# Altium footprint library SamacSys.PcbLib: 15 footprints
Each footprint in its own frame and in the unit in brackets; x right, y up, seen from the top. Pads: shape width x height; smd on the part's side, far side on the other; paste and mask are expansions set on the pad; w line width, h text height; cw(c..) or ccw(c..) is an arc to the next point about the centre after c.
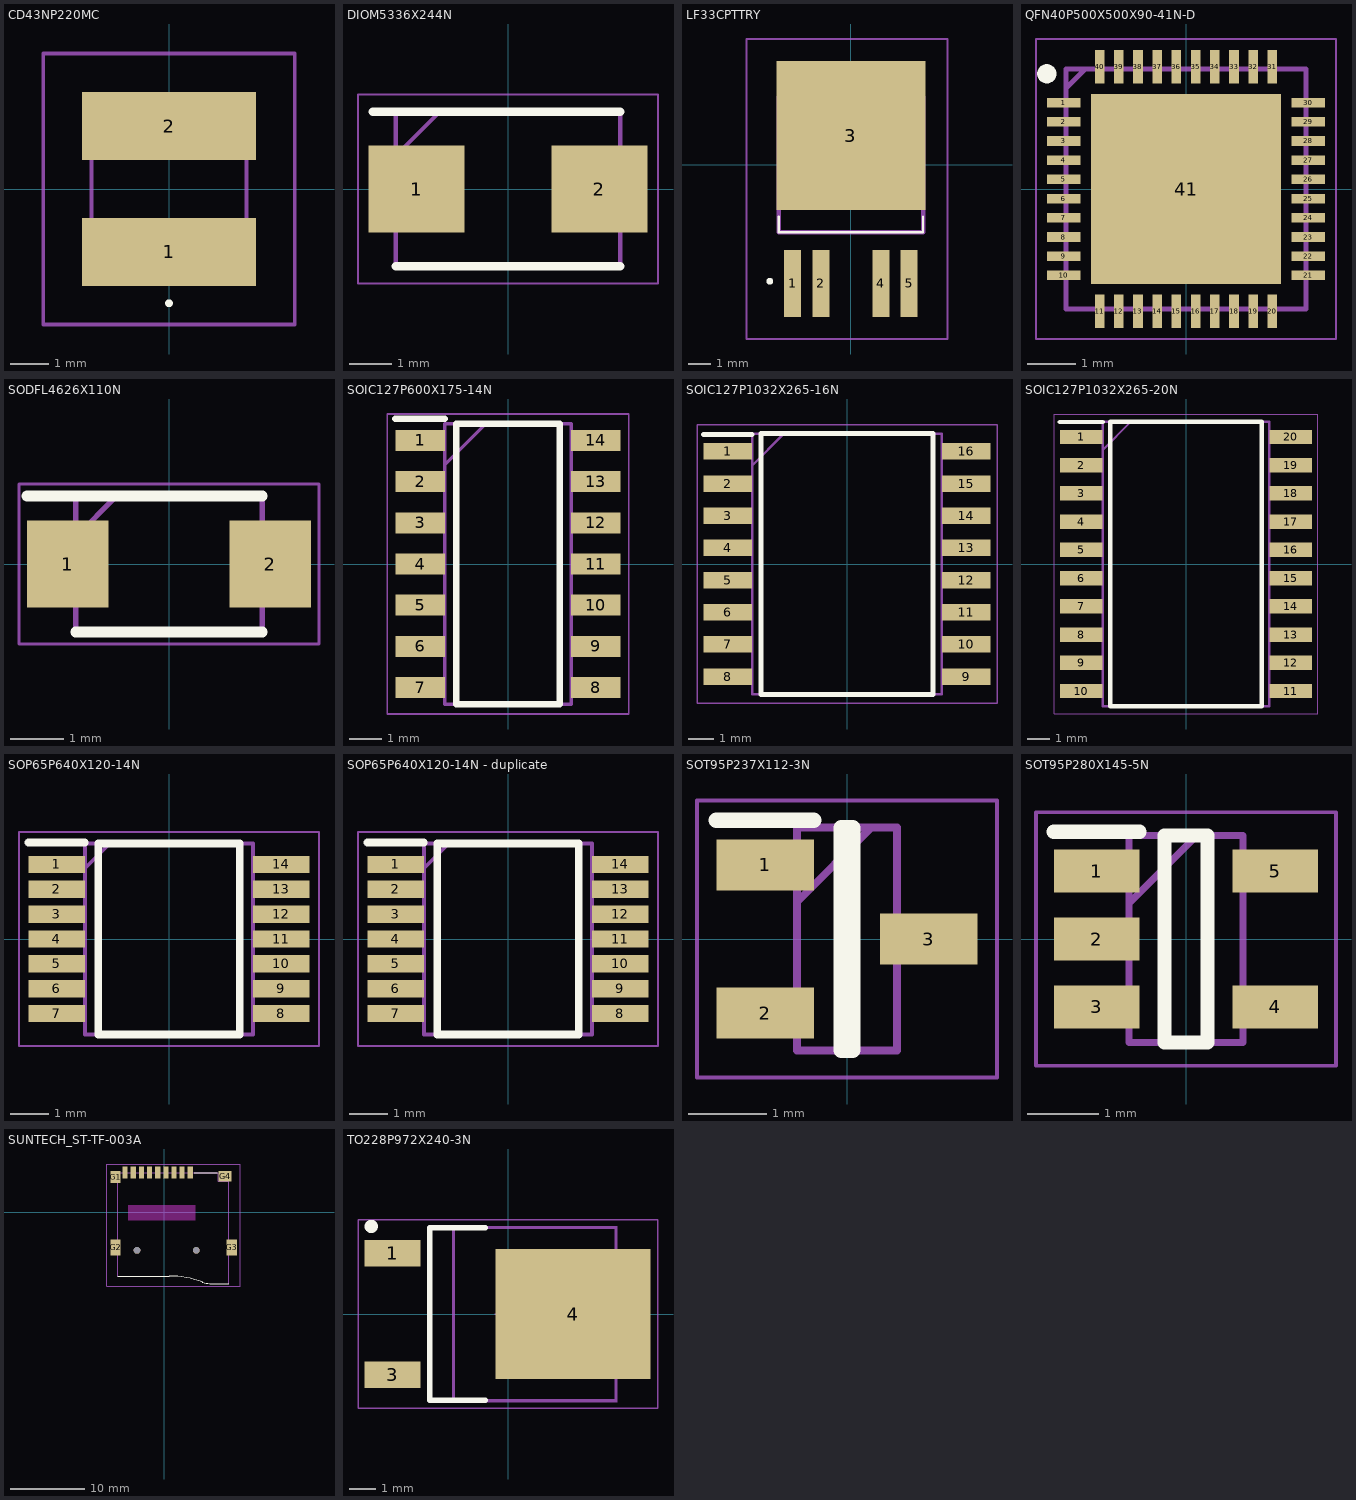
[diagram p0: the footprints below, top view; thin cyan lines are the x and y axes]

## CD43NP220MC [mm]
pads (2):
  rect 4.5x1.75 smd: 1(0,-1.625) 2(0,1.625)
Top Overlay:
  lines w0.1: 0,-3 cw(c0,-2.95) 0,-2.9 cw(c0,-2.95) 0,-3
Mechanical 13:
  lines w0.1: -2,-1.8 -1.6,-2.25 1.6,-2.25 2,-1.8 2,1.8 1.6,2.25 -1,2.25 -1.6,2.25 -2,1.8 -2,-1.8
Mechanical 15:
  lines w0.1: -3.25,-3.5 -3.25,3.5 3.25,3.5 3.25,-3.5 -3.25,-3.5

## DIOM5336X244N [mm]
pads (2):
  rect 2.25x2.05 smd: 1(-2.15,0) 2(2.15,0)
Top Overlay:
  lines w0.2: -3.175,1.81 2.635,1.81 ; -2.635,-1.81 2.635,-1.81
Mechanical 13:
  lines w0.1: -2.635,0.785 -1.61,1.81 ; -2.635,-1.81 2.635,-1.81 2.635,1.81 -2.635,1.81 -2.635,-1.81
Mechanical 15:
  lines w0.05: -3.525,-2.22 3.525,-2.22 3.525,2.22 -3.525,2.22 -3.525,-2.22
3D body "SS510B.stp": height 2.44, standoff 0, extent -2.635,-1.81 2.635,1.81

## LF33CPTTRY [mm]
pads (5):
  rect 0.76x3 smd: 1(-2.62,-5.35) 2(-1.35,-5.35) 4(1.35,-5.35) 5(2.62,-5.35)
  rect 6.7x6.7 smd: 3(0,1.3)
Top Overlay:
  lines w0.1: -3.25,-3.05 -3.25,-2.35 -3.25,-3.05 ; -3.25,-3.05 3.25,-3.05 ; -3.25,-3.05 3.25,-3.05 ; 3.25,-3.05 3.25,-2.35 3.25,-3.05
  lines w0.2: -3.7,-5.25 ccw(c-3.65,-5.25) -3.6,-5.25 ; -3.7,-5.25 cw(c-3.65,-5.25) -3.6,-5.25 ; -3.7,-5.25 ccw(c-3.65,-5.25) -3.6,-5.25
Mechanical 13:
  lines w0.2: -3.25,-3.05 -3.25,3.05 3.25,3.05 3.25,-3.05 -3.25,-3.05
Mechanical 15:
  lines w0.1: -4.7,-7.85 -4.7,5.65 4.35,5.65 4.35,-7.85 -4.7,-7.85

## QFN40P500X500X90-41N-D [mm]
pads (41):
  rect 0.7x0.2 smd: 1(-2.55,1.8) 2(-2.55,1.4) 3(-2.55,1) 4(-2.55,0.6) 5(-2.55,0.2) 6(-2.55,-0.2) 7(-2.55,-0.6) 8(-2.55,-1) 9(-2.55,-1.4) 10(-2.55,-1.8) 21(2.55,-1.8) 22(2.55,-1.4) 23(2.55,-1) 24(2.55,-0.6) 25(2.55,-0.2) 26(2.55,0.2) 27(2.55,0.6) 28(2.55,1) 29(2.55,1.4) 30(2.55,1.8)
  rect 0.2x0.7 smd: 11(-1.8,-2.55) 12(-1.4,-2.55) 13(-1,-2.55) 14(-0.6,-2.55) 15(-0.2,-2.55) 16(0.2,-2.55) 17(0.6,-2.55) 18(1,-2.55) 19(1.4,-2.55) 20(1.8,-2.55) 31(1.8,2.55) 32(1.4,2.55) 33(1,2.55) 34(0.6,2.55) 35(0.2,2.55) 36(-0.2,2.55) 37(-0.6,2.55) 38(-1,2.55) 39(-1.4,2.55) 40(-1.8,2.55)
  rect 3.95x3.95 smd: 41(0,0)
Top Overlay:
  circle w0.2: c-2.9,2.4 r0.1
Mechanical 13:
  lines w0.1: -2.5,2.1 -2.1,2.5 ; -2.5,-2.5 -2.5,2.5 2.5,2.5 2.5,-2.5 -2.5,-2.5
Mechanical 15:
  lines w0.05: -3.125,-3.125 -3.125,3.125 3.125,3.125 3.125,-3.125 -3.125,-3.125
3D body "ALC5651-CGT.stp": height 0.9, standoff 0, extent -2.55,-2.55 2.55,2.55

## SODFL4626X110N [mm]
pads (2):
  rect 1.53x1.63 smd: 1(-1.9,0) 2(1.9,0)
Top Overlay:
  lines w0.2: -2.665,1.275 1.75,1.275 ; -1.75,-1.275 1.75,-1.275
Mechanical 13:
  lines w0.1: -1.75,0.51 -0.985,1.275 ; -1.75,-1.275 -1.75,1.275 1.75,1.275 1.75,-1.275 -1.75,-1.275
Mechanical 15:
  lines w0.05: -2.815,-1.5 -2.815,1.5 2.815,1.5 2.815,-1.5 -2.815,-1.5
3D body "SS24F.stp": height 1.1, standoff 0, extent -2.325,-1.275 2.325,1.275

## SOIC127P600X175-14N [mm]
pads (14):
  rect 1.525x0.65 smd: 1(-2.712,3.81) 2(-2.712,2.54) 3(-2.712,1.27) 4(-2.712,0) 5(-2.712,-1.27) 6(-2.712,-2.54) 7(-2.712,-3.81) 8(2.712,-3.81) 9(2.712,-2.54) 10(2.712,-1.27) 11(2.712,0) 12(2.712,1.27) 13(2.712,2.54) 14(2.712,3.81)
Top Overlay:
  lines w0.2: -3.475,4.485 -1.95,4.485 ; -1.6,-4.325 1.6,-4.325 1.6,4.325 -1.6,4.325 -1.6,-4.325
Mechanical 13:
  lines w0.1: -1.95,3.055 -0.68,4.325 ; -1.95,-4.325 1.95,-4.325 1.95,4.325 -1.95,4.325 -1.95,-4.325
Mechanical 15:
  lines w0.05: -3.725,-4.625 3.725,-4.625 3.725,4.625 -3.725,4.625 -3.725,-4.625
3D body "TXB0104D.stp": height 1.75, standoff 0, extent -3.013,-4.315 3.013,4.335

## SOIC127P1032X265-16N [mm]
pads (16):
  rect 1.925x0.65 smd: 1(-4.712,4.445) 2(-4.712,3.175) 3(-4.712,1.905) 4(-4.712,0.635) 5(-4.712,-0.635) 6(-4.712,-1.905) 7(-4.712,-3.175) 8(-4.712,-4.445) 9(4.712,-4.445) 10(4.712,-3.175) 11(4.712,-1.905) 12(4.712,-0.635) 13(4.712,0.635) 14(4.712,1.905) 15(4.712,3.175) 16(4.712,4.445)
Top Overlay:
  lines w0.2: -5.675,5.12 -3.75,5.12 ; -3.4,-5.15 3.4,-5.15 3.4,5.15 -3.4,5.15 -3.4,-5.15
Mechanical 13:
  lines w0.1: -3.75,3.88 -2.48,5.15 ; -3.75,-5.15 3.75,-5.15 3.75,5.15 -3.75,5.15 -3.75,-5.15
Mechanical 15:
  lines w0.05: -5.925,-5.5 5.925,-5.5 5.925,5.5 -5.925,5.5 -5.925,-5.5
3D body "ADUM1401BRWZ.stp": height 2.65, standoff 0, extent -5.162,-5.15 5.162,5.15

## SOIC127P1032X265-20N [mm]
pads (20):
  rect 1.925x0.65 smd: 1(-4.712,5.715) 2(-4.712,4.445) 3(-4.712,3.175) 4(-4.712,1.905) 5(-4.712,0.635) 6(-4.712,-0.635) 7(-4.712,-1.905) 8(-4.712,-3.175) 9(-4.712,-4.445) 10(-4.712,-5.715) 11(4.712,-5.715) 12(4.712,-4.445) 13(4.712,-3.175) 14(4.712,-1.905) 15(4.712,-0.635) 16(4.712,0.635) 17(4.712,1.905) 18(4.712,3.175) 19(4.712,4.445) 20(4.712,5.715)
Top Overlay:
  lines w0.2: -5.675,6.39 -3.75,6.39 ; -3.4,-6.4 3.4,-6.4 3.4,6.4 -3.4,6.4 -3.4,-6.4
Mechanical 13:
  lines w0.1: -3.75,5.13 -2.48,6.4 ; -3.75,-6.4 3.75,-6.4 3.75,6.4 -3.75,6.4 -3.75,-6.4
Mechanical 15:
  lines w0.05: -5.925,-6.75 5.925,-6.75 5.925,6.75 -5.925,6.75 -5.925,-6.75
3D body "ADM2587EBRWZ.stp": height 2.65, standoff 0, extent -5.162,-6.4 5.162,6.4

## SOP65P640X120-14N [mm]
pads (14):
  rect 1.475x0.45 smd: 1(-2.938,1.95) 2(-2.938,1.3) 3(-2.938,0.65) 4(-2.938,0) 5(-2.938,-0.65) 6(-2.938,-1.3) 7(-2.938,-1.95) 8(2.938,-1.95) 9(2.938,-1.3) 10(2.938,-0.65) 11(2.938,0) 12(2.938,0.65) 13(2.938,1.3) 14(2.938,1.95)
Top Overlay:
  lines w0.2: -3.675,2.525 -2.2,2.525 ; -1.85,-2.5 -1.85,2.5 1.85,2.5 1.85,-2.5 -1.85,-2.5
Mechanical 13:
  lines w0.1: -2.2,1.85 -1.55,2.5 ; -2.2,-2.5 -2.2,2.5 2.2,2.5 2.2,-2.5 -2.2,-2.5
Mechanical 15:
  lines w0.05: -3.925,-2.8 -3.925,2.8 3.925,2.8 3.925,-2.8 -3.925,-2.8
3D body "SN74AHCT04PWR.stp": height 1.13, standoff 0, extent -3.2,-2.5 3.2,2.5

## SOP65P640X120-14N - duplicate [mm]
pads (14):
  rect 1.475x0.45 smd: 1(-2.938,1.95) 2(-2.938,1.3) 3(-2.938,0.65) 4(-2.938,0) 5(-2.938,-0.65) 6(-2.938,-1.3) 7(-2.938,-1.95) 8(2.938,-1.95) 9(2.938,-1.3) 10(2.938,-0.65) 11(2.938,0) 12(2.938,0.65) 13(2.938,1.3) 14(2.938,1.95)
Top Overlay:
  lines w0.2: -3.675,2.525 -2.2,2.525 ; -1.85,-2.5 1.85,-2.5 1.85,2.5 -1.85,2.5 -1.85,-2.5
Mechanical 13:
  lines w0.1: -2.2,1.85 -1.55,2.5 ; -2.2,-2.5 2.2,-2.5 2.2,2.5 -2.2,2.5 -2.2,-2.5
Mechanical 15:
  lines w0.05: -3.925,-2.8 3.925,-2.8 3.925,2.8 -3.925,2.8 -3.925,-2.8
3D body "SN74AHCT04PWR.stp": height 1.13, standoff 0, extent -3.2,-2.5 3.2,2.5

## SOT95P237X112-3N [mm]
pads (3):
  rect 1.25x0.65 smd: 1(-1.05,0.95) 2(-1.05,-0.95) 3(1.05,0)
Top Overlay:
  lines w0.2: -1.675,1.525 -0.425,1.525 ; -0.075,-1.43 0.075,-1.43 0.075,1.43 -0.075,1.43 -0.075,-1.43
Mechanical 13:
  lines w0.1: -0.64,0.48 0.31,1.43 ; -0.64,-1.43 0.64,-1.43 0.64,1.43 -0.64,1.43 -0.64,-1.43
Mechanical 15:
  lines w0.05: -1.925,-1.775 1.925,-1.775 1.925,1.775 -1.925,1.775 -1.925,-1.775
3D body "MCP1700T-3302E_TT.stp": height 1.12, standoff 0, extent -1.185,-1.43 1.185,1.43

## SOT95P280X145-5N [mm]
pads (5):
  rect 1.2x0.6 smd: 1(-1.25,0.95) 2(-1.25,0) 3(-1.25,-0.95) 4(1.25,-0.95) 5(1.25,0.95)
Top Overlay:
  lines w0.2: -1.85,1.5 -0.65,1.5 ; -0.3,-1.45 0.3,-1.45 0.3,1.45 -0.3,1.45 -0.3,-1.45
Mechanical 13:
  lines w0.1: -0.8,0.5 0.15,1.45 ; -0.8,-1.45 0.8,-1.45 0.8,1.45 -0.8,1.45 -0.8,-1.45
Mechanical 15:
  lines w0.05: -2.1,-1.775 2.1,-1.775 2.1,1.775 -2.1,1.775 -2.1,-1.775
3D body "INA180A3IDBVR.stp": height 1.2, standoff 0, extent -1.4,-1.45 1.4,1.45

## SUNTECH_ST-TF-003A [mm]
pads (15):
  rect 0.7x1.6 smd: 1(3.52,5.33) 2(2.42,5.33) 3(1.32,5.33) 4(0.22,5.33) 5(-0.88,5.33) 6(-1.98,5.33) 7(-3.08,5.33) 8(-4.18,5.33) 9(-5.28,5.33)
  rect 1.4x1.6 smd: G1(-6.58,4.73)
  rect 1.4x2.2 smd: G2(-6.58,-4.77) G3(9.12,-4.77)
  rect 1.8x1.4 smd: G4(8.22,4.83)
  round 0.9 hole 0.9 unplated: ""(-3.68,-5.17) ""(4.32,-5.17)
Top Overlay:
  lines w0.127: -6.287,-8.64 0.647,-8.64 cw(c0.647,-21.34) 5.198,-9.484 ; 4.07,5.33 7.17,5.33 ; 5.161,-9.469 ccw(c6.168,-6.847) 6.168,-9.656 8.699,-9.656
Keep-Out Layer:
  region: 4.172,-1.073 -4.833,-1.073 -4.833,0.928 4.172,0.928
Mechanical 13:
  lines w0.127: -6.287,-8.64 -6.287,5.33 7.302,5.33 7.302,4.187 8.699,4.187 8.699,-9.656
Mechanical 15:
  lines w0.127: -7.75,-10 -7.75,6.5 10.25,6.5 10.25,-10 -7.75,-10

## TO228P972X240-3N [mm]
pads (3):
  rect 2.1x1 smd: 1(-4.35,2.28) 3(-4.35,-2.28)
  rect 5.85x4.9 smd: 4(2.45,0)
Top Overlay:
  circle w0.25: c-5.15,3.3 r0.125
  lines w0.2: -0.85,-3.25 -2.95,-3.25 -2.95,3.25 -0.85,3.25
Mechanical 13:
  lines w0.1: 4.062,-2.35 4.326,-2.35 4.863,-1.756 4.863,1.756 4.327,2.35 4.063,2.35 ; -2.037,-3.25 -2.037,3.25 4.062,3.25 4.062,-3.25 -2.037,-3.25
Mechanical 15:
  circle w0.05: c0,0 r0.35
  lines w0.001: -2.088,-3.3 -2.088,3.3 4.112,3.3 4.112,-3.3 -2.088,-3.3
  lines w0.05: -0.5,0 0.5,0 ; 0,-0.5 0,0.5 ; -5.65,-3.55 -5.65,3.55 5.65,3.55 5.65,-3.55 -5.65,-3.55
3D body "LF33CDT.stp": height 2.3, standoff 0, extent -4.776,-3.3 4.75,3.3

## USB2514B-AEZG [mm]